# Altium footprint library К572ПВ4.PcbLib: 1 footprints
Each footprint in its own frame and in the unit in brackets; x right, y up, seen from the top. Pads: shape width x height; smd on the part's side, far side on the other; paste and mask are expansions set on the pad; w line width, h text height; cw(c..) or ccw(c..) is an arc to the next point about the centre after c.
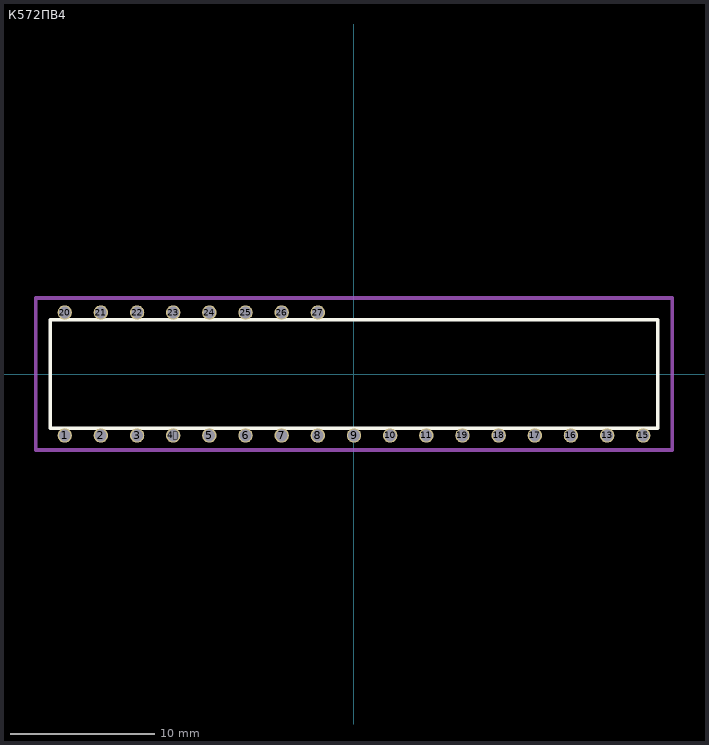
[diagram p0: the footprint, top view; thin cyan lines are the x and y axes]

## К572ПВ4 [mm]
pads (25):
  round 1 hole 0.8: 1(-20,-4.25) 2(-17.5,-4.25) 3(-15,-4.25) "4 "(-12.5,-4.25) 5(-10,-4.25) 6(-7.5,-4.25) 7(-5,-4.25) 8(-2.5,-4.25) 9(0,-4.25) 10(2.5,-4.25) 11(5,-4.25) 13(17.5,-4.25) 15(20,-4.25) 16(15,-4.25) 17(12.5,-4.25) 18(10,-4.25) 19(7.5,-4.25) 20(-20,4.25) 21(-17.5,4.25) 22(-15,4.25) 23(-12.5,4.25) 24(-10,4.25) 25(-7.5,4.25) 26(-5,4.25) 27(-2.5,4.25)
Top Overlay:
  lines w0.254: 20,-3.75 21,-3.75 ; 21,-3.75 -21,-3.75 -21,3.75 21,3.75 21,-3.75
Mechanical 1:
  lines w0.254: -22,-5.25 22,-5.25 22,5.25 -22,5.25 -22,-5.25